# Altium integrated library IS31FL3731-SALS2.IntLib: 1 symbol
Pins are listed as number, name and electrical type; pins without a type are passive.

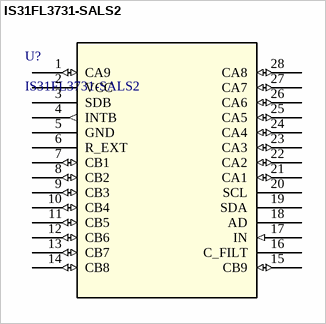
[diagram p0: symbol IS31FL3731-SALS2]

## IS31FL3731-SALS2
designator U?
No Description Available; Vendor: ISSI; Built_By: EMA_Cory; SourceLibrary: ISSI_2020-02-04; Datasheet: http://www.issi.com/WW/pdf/31FL3731.pdf; Manufacturer_Part_Number: IS31FL3731-SALS2; Copyright: Copyright (C) 2018 Accelerated Designs. All rights reserved; RefDes: RefDes; Type: DEV
footprint SSOP-28_ISI
pins: 1 CA9 (io), 2 VCC (power), 3 SDB, 4 INTB (out), 5 GND, 6 R_EXT, 7 CB1 (io), 8 CB2 (io), 9 CB3 (io), 10 CB4 (io), 11 CB5 (io), 12 CB6 (io), 13 CB7 (io), 14 CB8 (io), 15 CB9 (io), 16 C_FILT, 17 IN (in), 18 AD, 19 SDA, 20 SCL, 21 CA1 (io), 22 CA2 (io), 23 CA3 (io), 24 CA4 (io), 25 CA5 (io), 26 CA6 (io), 27 CA7 (io), 28 CA8 (io)